# Altium integrated library Open_Parts_Library_Altium.IntLib: 30 symbols
Pins are listed as number, name and electrical type; pins without a type are passive.

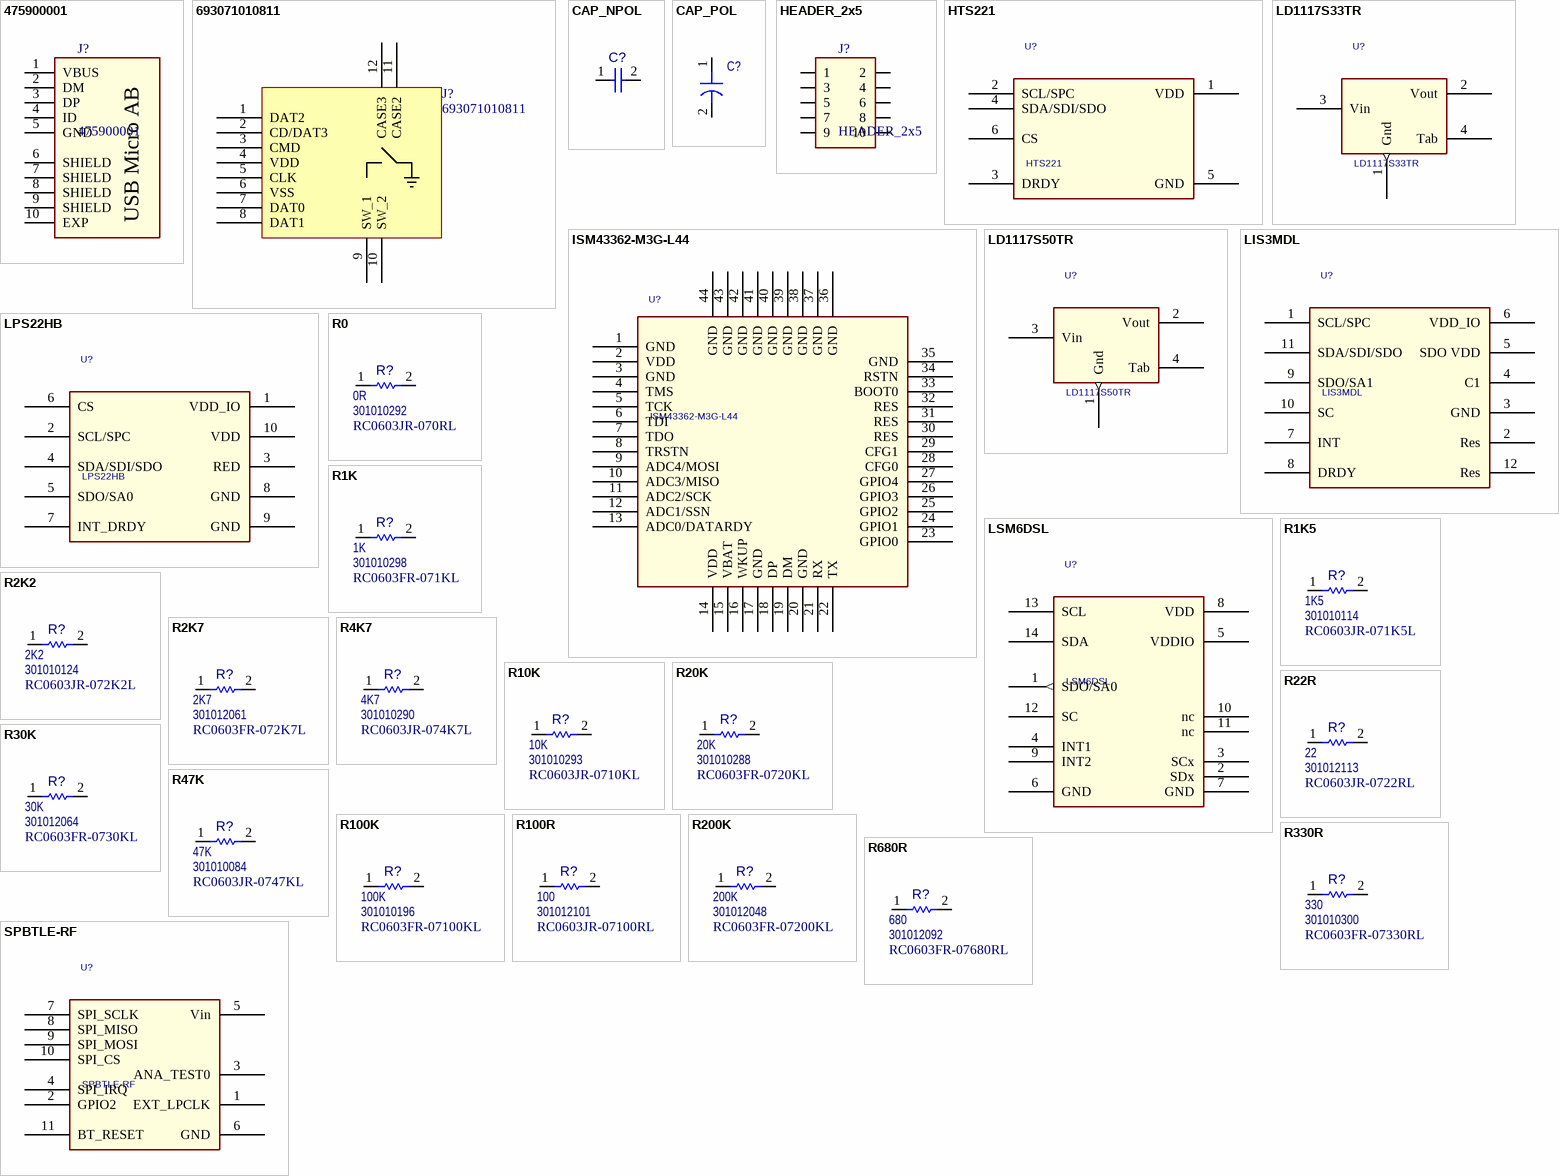
[diagram p0: symbols 475900001 to SPBTLE-RF]

## 475900001
designator J?
USB-MICRO-AB, 47590-0001, SMT, MOLEX
footprint CON_USBMICROAB_MOLEX_47590-0001_H3
pins: 1 VBUS, 2 DM, 3 DP, 4 ID, 5 GND, 6 SHIELD, 7 SHIELD, 8 SHIELD, 9 SHIELD, 10 EXP
text: USB Micro AB

## 693071010811
designator J?
CONN MICRO SD 8 POS SMD; Manufacturer: Wurth Electronics Inc; Card Type: Secure Digital - microSD™; Number of Positions: 9 (8 + 1); Connector Type: Connector and Ejector; Insertion, Removal Method: Push In, Push Out; .Creator: MM; .Checked PCB: used; Supplier 1: Digi-Key; Manufacturer Part Number: 693071010811; RoHS: RoHS Compliant; Category: Connectors, Interconnects; Stock 1: 4877; Pricing 1: 1=3.32, 10=3.188, 50=2.805, 100=2.6775, 500=2.295, 1400=2.10375 (USD); Packaging: Cut Tape (CT); Ejector Side: -; Mounting Type: Surface Mount, Right Angle; Features: Switch; Height Above Board: 0.072" (1.83mm); Mounting Feature: Normal, Standard - Top; Contact Finish: Gold; Contact Finish Thickness: -; ComponentLink1URL: http://katalog.we-online.de/em/datasheet/693071010811.pdf; ComponentLink1Description: http://katalog.we-online.de/em/datasheet/693071010811.pdf; Supplier Part Number 1: 732-3819-1-ND; .Checked SCH: used
footprint 693071010811
pins: 1 DAT2, 2 CD/DAT3, 3 CMD, 4 VDD, 5 CLK, 6 VSS, 7 DAT0, 8 DAT1, 9 SW_1, 10 SW_2, 11 CASE2, 12 CASE3

## CAP_NPOL
designator C?  (value not drawn)
footprint 0603_C
pins: 1, 2

## CAP_POL
designator C?
footprint 0603_C
pins: 1, 2

## HEADER_2x5
designator J?
HEADER, 2x5, 10POS
pins: 1, 2, 3, 4, 5, 6, 7, 8, 9, 10

## HTS221
designator U?
Capacitive digital sensor for relative humidity and temperature; Supplier Part Number: HTS221; Value: HTS221; RoHS: RoHS Compliant; Supplier Device Package: HLGA-6L
footprint HLGA6L-2x2x0.9 (HLGA6L 2x2x0.9mm pitch1mm)
pins: 1 VDD, 2 SCL/SPC, 3 DRDY, 4 SDA/SDI/SDO, 5 GND, 6 CS

## ISM43362-M3G-L44
designator U?
ISM43362-M3G-L44 Wifi Module 802.11 bgn; Supplier Part Number: ISM43362-M3G-L44; Value: ISM43362-M3G-L44; RoHS: RoHS Compliant; Supplier Device Package: Module Wifi
footprint ISM43362-M3G-L44 (Wifi Module ISM43362-M3G-L44)
pins: 1 GND, 2 VDD, 3 GND, 4 TMS, 5 TCK, 6 TDI, 7 TDO, 8 TRSTN, 9 ADC4/MOSI, 10 ADC3/MISO, 11 ADC2/SCK, 12 ADC1/SSN, 13 ADC0/DATARDY, 14 VDD, 15 VBAT, 16 WKUP, 17 GND, 18 DP, 19 DM, 20 GND, 21 RX, 22 TX, 23 GPIO0, 24 GPIO1, 25 GPIO2, 26 GPIO3, 27 GPIO4, 28 CFG0, 29 CFG1, 30 RES, 31 RES, 32 RES, 33 BOOT0, 34 RSTN, 35 GND, 36 GND, 37 GND, 38 GND, 39 GND, 40 GND, 41 GND, 42 GND, 43 GND, 44 GND

## LD1117S33TR
designator U?
IC REG LDO 5V 0.8A SOT223; Supplier Part Number: LD1117S33TR; Value: LD1117S33TR; RoHS: RoHS Compliant; Supplier Device Package: SOT-223-TAB
footprint SOT223
pins: 1 Gnd (out), 2 Vout, 3 Vin, 4 Tab

## LD1117S50TR
designator U?
IC REG LDO 5V 0.8A SOT223; Supplier Part Number: LD1117S50TR; Value: LD1117S50TR; RoHS: RoHS Compliant; Supplier Device Package: SOT-223-TAB
footprint SOT223
pins: 1 Gnd (out), 2 Vout, 3 Vin, 4 Tab

## LIS3MDL
designator U?
Magnetic sensor MEMS (3 Axis); Supplier Part Number: LIS3MDL; Value: LIS3MDL; RoHS: RoHS Compliant; Supplier Device Package: LGA12
footprint LGA12 2x2x1mm
pins: 1 SCL/SPC, 2 Res, 3 GND, 4 C1, 5 SDO VDD, 6 VDD_IO, 7 INT, 8 DRDY, 9 SDO/SA1, 10 SC, 11 SDA/SDI/SDO, 12 Res

## LPS22HB
designator U?
MEMS nano pressure/temp sensor; Supplier Part Number: LPS22HB; Value: LPS22HB; RoHS: RoHS Compliant; Supplier Device Package: HLGA-10L
footprint HLGA10L-2X2X0.76 (Name Type Description Vault Item Revision Revision Status    HLGA10L-2X2X0.76 Footprint HLGA-10L 2x2x0.76mm pitch 0.5mm)
pins: 1 VDD_IO, 2 SCL/SPC, 3 RED, 4 SDA/SDI/SDO, 5 SDO/SA0, 6 CS, 7 INT_DRDY, 8 GND, 9 GND, 10 VDD

## LSM6DSL
designator U?
Accelero + Gyro MEMS (6 Axis); Supplier Part Number: LSM6DSL; Value: LSM6DSL; RoHS: RoHS Compliant; Supplier Device Package: LGA14
footprint LGA14L-2.5X3X0.86p0.5 (LGA14 2.5x3x0.86mm pitch0.5mm)
pins: 1 SDO/SA0 (out), 2 SDx, 3 SCx, 4 INT1, 5 VDDIO, 6 GND, 7 GND, 8 VDD, 9 INT2, 10 nc, 11 nc, 12 SC, 13 SCL, 14 SDA

## R0
designator R?  VALUE_TXT: 0R  OPL_PART_NO: 301010292  MPN: RC0603JR-070RL  (hidden comment: *)
SMD RES 0R-5%-1/10W; Manufacturer: YAGEO; Package: 0603
footprint 0603
pins: 1, 2

## R1K
designator R?  VALUE_TXT: 1K  OPL_PART_NO: 301010298  MPN: RC0603FR-071KL  (hidden comment: *)
SMD RES 1K-1%-1/10W; Manufacturer: YAGEO; Package: 0603
footprint 0603
pins: 1, 2

## R1K5
designator R?  VALUE_TXT: 1K5  OPL_PART_NO: 301010114  MPN: RC0603JR-071K5L  (hidden comment: *)
SMD RES 1.5K-5%-1/10W; Manufacturer: YAGEO; Package: 0603
footprint 0603
pins: 1, 2

## R2K2
designator R?  VALUE_TXT: 2K2  OPL_PART_NO: 301010124  MPN: RC0603JR-072K2L  (hidden comment: *)
SMD RES 2.2K-5%-1/10W; Manufacturer: YAGEO; Package: 0603
footprint 0603
pins: 1, 2

## R2K7
designator R?  VALUE_TXT: 2K7  OPL_PART_NO: 301012061  MPN: RC0603FR-072K7L  (hidden comment: *)
SMD RES 2.7K-1%-1/10W;0603; Manufacturer: YAGEO; Package: 0603
footprint 0603
pins: 1, 2

## R4K7
designator R?  VALUE_TXT: 4K7  OPL_PART_NO: 301010290  MPN: RC0603JR-074K7L  (hidden comment: *)
SMD RES 4.7K-5%-1/10W; Manufacturer: YAGEO; Package: 0603
footprint 0603
pins: 1, 2

## R10K
designator R?  VALUE_TXT: 10K  OPL_PART_NO: 301010293  MPN: RC0603JR-0710KL  (hidden comment: *)
SMD RES 10K-5%-1/10W; Manufacturer: YAGEO; Package: 0603
footprint 0603
pins: 1, 2

## R20K
designator R?  VALUE_TXT: 20K  OPL_PART_NO: 301010288  MPN: RC0603FR-0720KL  (hidden comment: *)
SMD RES 20K-1%-1/10W; Manufacturer: YAGEO; Package: 0603
footprint 0603
pins: 1, 2

## R22R
designator R?  VALUE_TXT: 22  OPL_PART_NO: 301012113  MPN: RC0603JR-0722RL  (hidden comment: *)
SMD RES 22R-5%-1/10W;0603; Manufacturer: YAGEO; Package: 0603
footprint 0603
pins: 1, 2

## R30K
designator R?  VALUE_TXT: 30K  OPL_PART_NO: 301012064  MPN: RC0603FR-0730KL  (hidden comment: *)
SMD RES 30K-1%-1/10W;0603; Manufacturer: YAGEO; Package: 0603
footprint 0603
pins: 1, 2

## R47K
designator R?  VALUE_TXT: 47K  OPL_PART_NO: 301010084  MPN: RC0603JR-0747KL  (hidden comment: *)
SMD RES 47K-5%-1/10W; Manufacturer: YAGEO; Package: 0603
footprint 0603
pins: 1, 2

## R100K
designator R?  VALUE_TXT: 100K  OPL_PART_NO: 301010196  MPN: RC0603FR-07100KL  (hidden comment: *)
SMD RES 100K-1%-1/10W;0603; Manufacturer: YAGEO; Package: 0603
footprint 0603
pins: 1, 2

## R100R
designator R?  VALUE_TXT: 100  OPL_PART_NO: 301012101  MPN: RC0603JR-07100RL  (hidden comment: *)
SMD RES 100R-5%-1/10W;0603; Manufacturer: YAGEO; Package: 0603
footprint 0603
pins: 1, 2

## R200K
designator R?  VALUE_TXT: 200K  OPL_PART_NO: 301012048  MPN: RC0603FR-07200KL  (hidden comment: *)
SMD RES 200K-1%-1/10W;0603; Manufacturer: YAGEO; Package: 0603
footprint 0603
pins: 1, 2

## R330R
designator R?  VALUE_TXT: 330  OPL_PART_NO: 301010300  MPN: RC0603FR-07330RL  (hidden comment: *)
SMD RES 330R-1%-1/10W; Manufacturer: YAGEO; Package: 0603
footprint 0603
pins: 1, 2

## R680R
designator R?  VALUE_TXT: 680  OPL_PART_NO: 301012092  MPN: RC0603FR-07680RL  (hidden comment: *)
SMD RES 680R-1%-1/10W;0603; Manufacturer: YAGEO; Package: 0603
footprint 0603
pins: 1, 2

## SPBTLE-RF
designator U?
Bluetooth module low power; Supplier Part Number: SPBTLE-RF; Value: SPBTLE-RF; RoHS: RoHS Compliant; Supplier Device Package: Module
footprint SPBTLE-RF (BL Module ST SPBTLE-RF)
pins: 1 EXT_LPCLK, 2 GPIO2, 3 ANA_TEST0, 4 SPI_IRQ, 5 Vin, 6 GND, 7 SPI_SCLK, 8 SPI_MISO, 9 SPI_MOSI, 10 SPI_CS, 11 BT_RESET

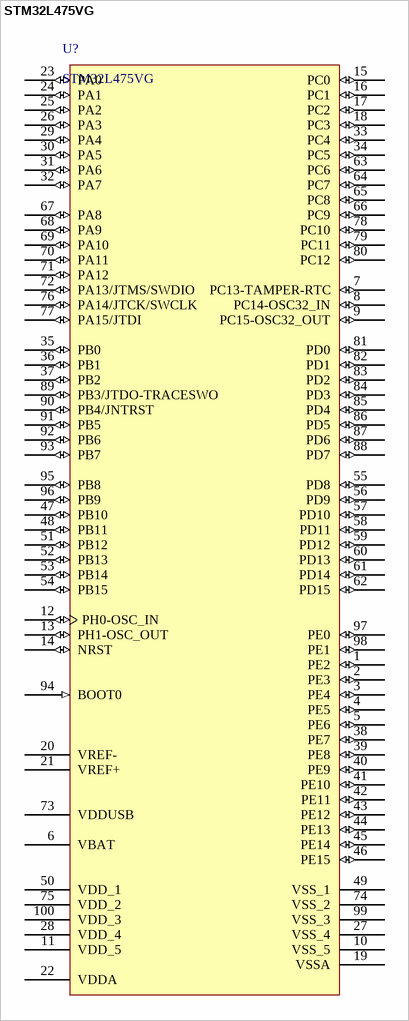
[diagram p1: symbol STM32L475VG]

## STM32L475VG
designator U?
STM32 ARM-based 32-bit MCU with 1 Mbyte Flash, 100-pin LQFP; Published: 01-JUILLET-2018; DatasheetVersion: Juillet 2018Mar-2008; PackageVersion: JUI-2018; PackageReference: LQFP100; Publisher: Altium Limited; PackageDescription: 100-Pin Low-Profile Quad Flat Pack, 14 x 14 mm Body, 0.5 mm Pitch (LQFP100); ComponentLink1Description: Manufacturer Link; ComponentLink1URL: www.st.com/stm32; ComponentLink2Description: Datasheet; ComponentLink2URL: https://www.st.com/resource/en/datasheet/stm32l475vg.pdf
footprint LQFP100_L (Thin QFP, 100-Leads, Body 14x14mm, Pitch 0.5mm, IPC High Density)
footprint LQFP100_M (Thin QFP, 100-Leads, Body 14x14mm, Pitch 0.5mm, IPC Low Density)
footprint LQFP100_N (Thin QFP, 100-Leads, Body 14x14mm, Pitch 0.5mm, IPC Medium Density)
pins: 1 PE2 (io), 2 PE3 (io), 3 PE4 (io), 4 PE5 (io), 5 PE6 (io), 6 VBAT (power), 7 PC13-TAMPER-RTC (io), 8 PC14-OSC32_IN (io), 9 PC15-OSC32_OUT (io), 10 VSS_5 (power), 11 VDD_5 (power), 12 PH0-OSC_IN (io), 13 PH1-OSC_OUT (io), 14 NRST (io), 15 PC0 (io), 16 PC1 (io), 17 PC2 (io), 18 PC3 (io), 19 VSSA (power), 20 VREF- (power), 21 VREF+ (power), 22 VDDA (power), 23 PA0 (io), 24 PA1 (io), 25 PA2 (io), 26 PA3 (io), 27 VSS_4 (power), 28 VDD_4 (power), 29 PA4 (io), 30 PA5 (io), 31 PA6 (io), 32 PA7 (io), 33 PC4 (io), 34 PC5 (io), 35 PB0 (io), 36 PB1 (io), 37 PB2 (io), 38 PE7 (io), 39 PE8 (io), 40 PE9 (io), 41 PE10 (io), 42 PE11 (io), 43 PE12 (io), 44 PE13 (io), 45 PE14 (io), 46 PE15 (io), 47 PB10 (io), 48 PB11 (io), 49 VSS_1 (power), 50 VDD_1 (power), 51 PB12 (io), 52 PB13 (io), 53 PB14 (io), 54 PB15 (io), 55 PD8 (io), 56 PD9 (io), 57 PD10 (io), 58 PD11 (io), 59 PD12 (io), 60 PD13 (io), 61 PD14 (io), 62 PD15 (io), 63 PC6 (io), 64 PC7 (io), 65 PC8 (io), 66 PC9 (io), 67 PA8 (io), 68 PA9 (io), 69 PA10 (io), 70 PA11 (io), 71 PA12 (io), 72 PA13/JTMS/SWDIO (io), 73 VDDUSB, 74 VSS_2 (power), 75 VDD_2 (power), 76 PA14/JTCK/SWCLK (io), 77 PA15/JTDI (io), 78 PC10 (io), 79 PC11 (io), 80 PC12 (io), 81 PD0 (io), 82 PD1 (io), 83 PD2 (io), 84 PD3 (io), 85 PD4 (io), 86 PD5 (io), 87 PD6 (io), 88 PD7 (io), 89 PB3/JTDO-TRACESWO (io), 90 PB4/JNTRST (io), 91 PB5 (io), 92 PB6 (io), 93 PB7 (io), 94 BOOT0 (in), 95 PB8 (io), 96 PB9 (io), 97 PE0 (io), 98 PE1 (io), 99 VSS_3 (power), 100 VDD_3 (power)